# Altium schematic symbol library Inductors.SchLib: 4 symbols
Pins are listed as number, name and electrical type; pins without a type are passive.

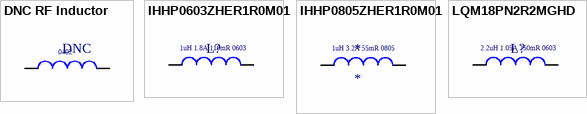
[diagram p0: symbols DNC RF Inductor to LQM18PN2R2MGHD]

## DNC RF Inductor
designator DNC  (value not drawn)
Inductor for PI filter, DNC
footprint RESC1005X04L (Chip Resistor, Body 1.0x0.5mm, IPC High Density (0402 Imperial))
pins: 1, 2
text: 0402

## IHHP0603ZHER1R0M01
designator L?  (value not drawn)
1 µH Shielded Inductor 1.8 A 110mOhm Max 0603 (1608 Metric); ComponentLink1Description: New link; ComponentLink1URL: https://www.digikey.com.au/en/products/detail/vishay-dale/IHHP0603ZHER1R0M01/16583528; Supplier 1: Mouser; Supplier Part Number 1: 70-IHHP0603ZHR1R0M01
footprint INDC1608LPX08L (Chip Inductor, Body 0.6x0.3mm, IPC High Density (0603LP Imperial))
pins: 1, 2
text: 1uH 1.8A 110mR 0603

## IHHP0805ZHER1R0M01
designator *
pins: 1, 2
text: 1uH 3.2A 55mR 0805

## LQM18PN2R2MGHD
designator L?  (value not drawn)
2.2 µH Shielded Multilayer Inductor 1.05 A 250mOhm Max 0603 (1608 Metric); ComponentLink1Description: New link; ComponentLink1URL: https://www.digikey.com.au/en/products/detail/murata-electronics/LQM18PN2R2MGHD/6606107; Supplier 1: Mouser; Supplier Part Number 1: 70-IHHP0603ZHR1R0M01
footprint INDC1608LPX08L (Chip Inductor, Body 0.6x0.3mm, IPC High Density (0603LP Imperial))
pins: 1, 2
text: 2.2uH 1.05A 250mR 0603